# EAGLE library part HFD4/9-S (library ELECTROMECH)
Small signal relay, 9VDC 12VDC MAX
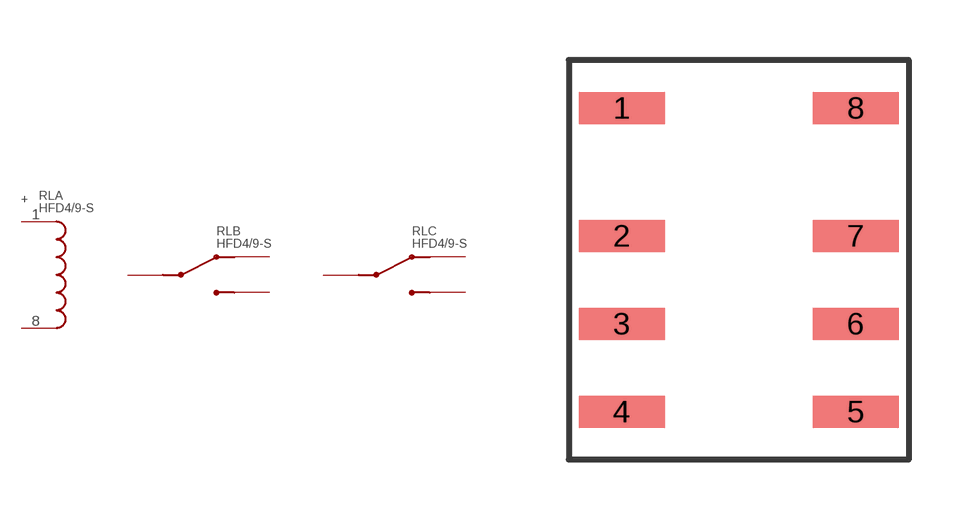
[diagram p1: symbol with the pads of G6SU-2G; footprint G6SU-2G]

Designator prefix RL; gates A=RELAY_COIL B=RELAY_CONTACT_SPDT C=RELAY_CONTACT_SPDT

## HFD4/9-S (HEIGHT: 6; VALUE: HFD4/9-S)  [G6SU-2G]
1  A:A1
2  B:2
3  B:1
4  B:3
5  C:3
6  C:1
7  C:2
8  A:A2

## Footprint G6SU-2G (pad centres in mm)
smd 2.15 x 0.8: 1 -2.925,3.8; 2 -2.925,0.6; 3 -2.925,-1.6; 4 -2.925,-3.8; 5 2.925,-3.8; 6 2.925,-1.6; 7 2.925,0.6; 8 2.925,3.8